# Altium footprint library 按键.PcbLib: 74 footprints (part 2 of 5)
Each footprint in its own frame and in the unit in brackets; x right, y up, seen from the top. Pads: shape width x height; smd on the part's side, far side on the other; paste and mask are expansions set on the pad; w line width, h text height; cw(c..) or ccw(c..) is an arc to the next point about the centre after c.
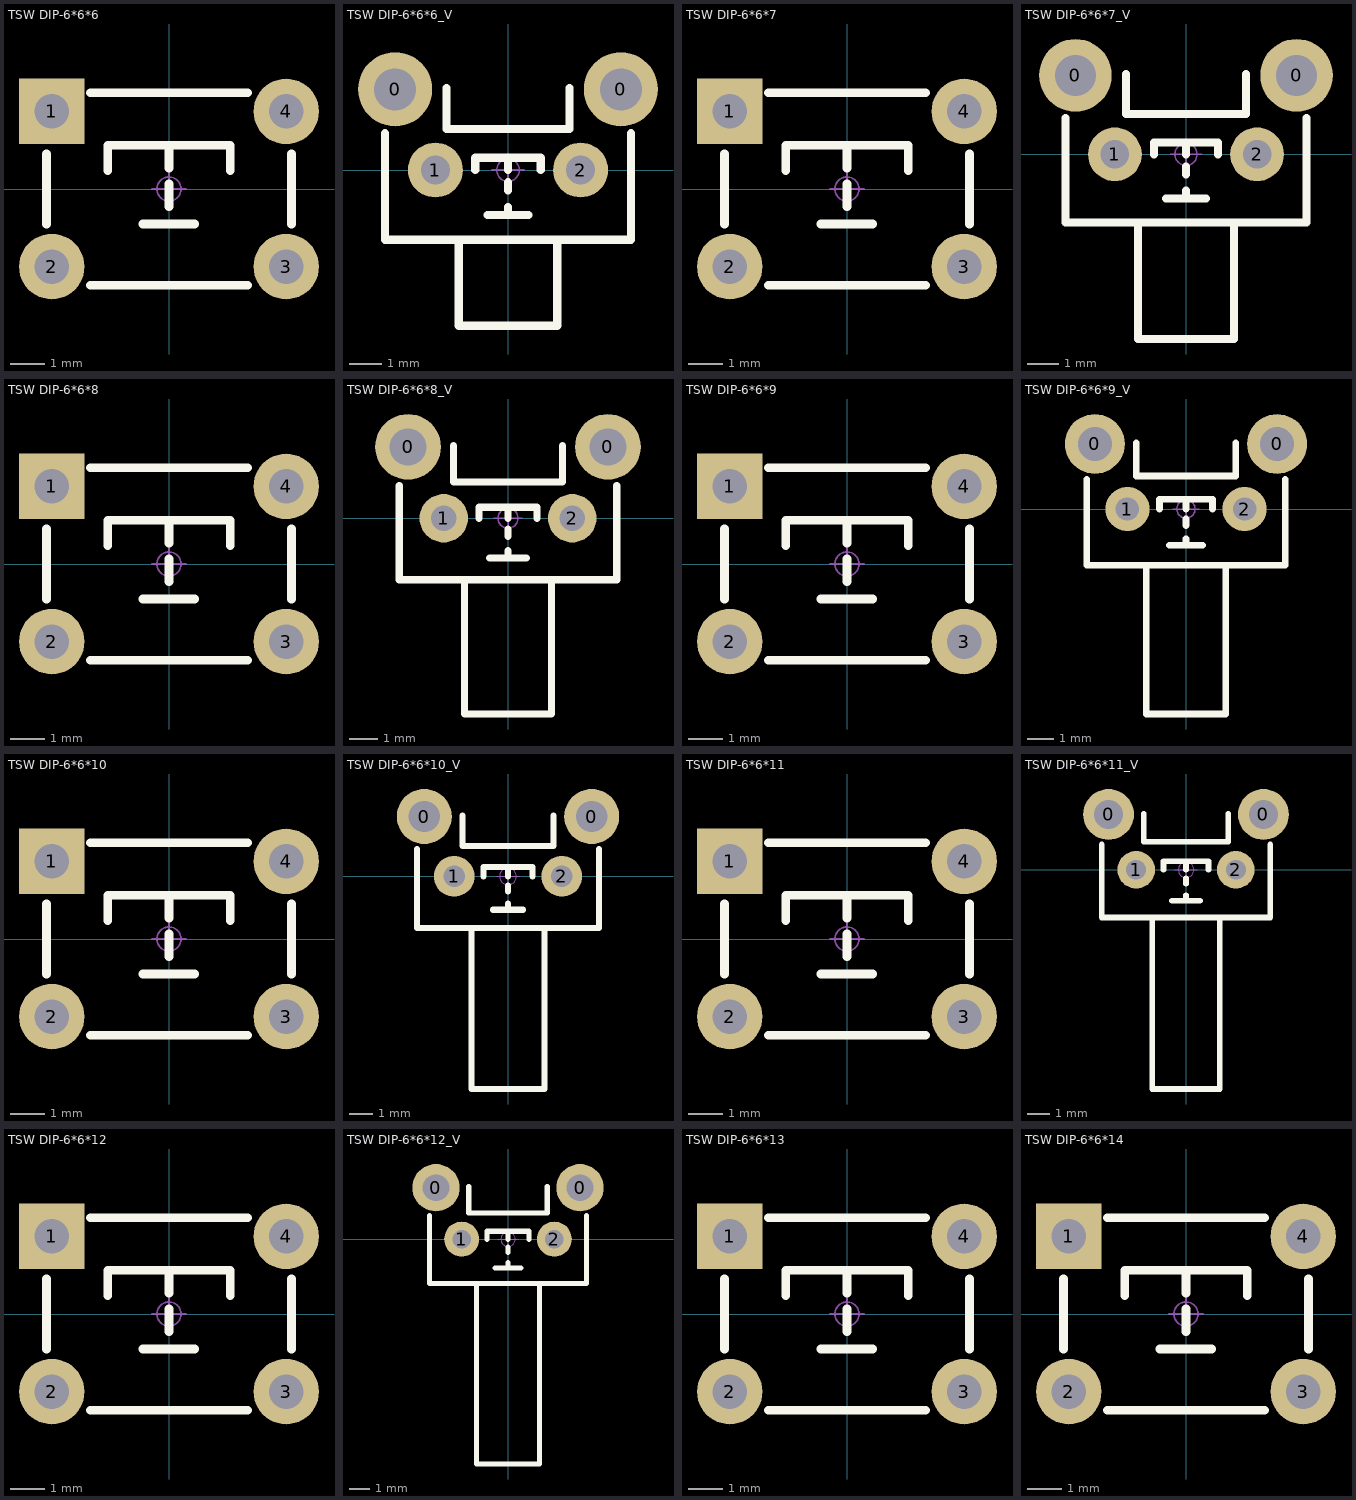
[diagram p1: the footprints below, top view; thin cyan lines are the x and y axes]

## TSW DIP-6*6*6 [mm] "6*6*6mm"
pads (4):
  rect 1.9x1.9 hole 1: 1(-3.4,2.25)
  round 1.9 hole 1: 2(-3.4,-2.25) 3(3.4,-2.25) 4(3.4,2.25)
Top Overlay:
  lines w0.254: -3.556,-1.016 -3.556,1.016 ; -2.286,-2.794 2.286,-2.794 ; -2.286,2.794 2.286,2.794 ; -1.778,0.533 -1.778,1.27 1.778,1.27 1.778,0.533 ; -0.762,-1.016 0.737,-1.016 ; 0,-0.508 0,0.152 ; 0,0.61 0,1.27 ; 3.556,-1.016 3.556,1.016
Bottom Overlay:
  lines w0.254: -2.286,-2.286 2.286,-2.286 ; -2.286,2.286 2.286,2.286
Mechanical 15:
  circle w0.05: c0,0 r0.35
  lines w0.05: -0.5,0 0.5,0 ; 0,-0.5 0,0.5
3D body "TSW DIP-6x6x6.STEP": height 5.95, standoff -3.45, extent -4.106,-3 4.106,3

## TSW DIP-6*6*6_V [mm] "侧按轻触开关 6*6*6mm"
pads (4):
  round 2.3 hole 1.3: 0(-3.5,2.5) 0(3.5,2.5)
  round 1.7 hole 0.9: 1(-2.25,0) 2(2.25,0)
Top Overlay:
  lines w0.254: -3.81,1.143 -3.81,-2.159 3.81,-2.159 3.81,1.143 ; -1.905,2.54 -1.905,1.27 1.905,1.27 1.905,2.54 ; -1.524,-2.159 -1.524,-4.826 1.524,-4.826 1.524,-2.159 ; -1.016,0 -1.016,0.381 1.016,0.381 1.016,0 ; -0.635,-1.397 0.635,-1.397 ; 0,-1.397 0,-1.143 ; 0,-0.635 0,-0.381 ; 0,0 0,0.381
Mechanical 15:
  circle w0.05: c0,0 r0.35
  lines w0.05: -0.5,0 0.5,0 ; 0,-0.5 0,0.5
3D body "TSW DIP-6x6x6_V.STEP": height 7.47, standoff -3.4, extent -4.183,-4.723 4.184,4.127

## TSW DIP-6*6*7 [mm] "6*6*7mm"
pads (4):
  rect 1.9x1.9 hole 1: 1(-3.4,2.25)
  round 1.9 hole 1: 2(-3.4,-2.25) 3(3.4,-2.25) 4(3.4,2.25)
Top Overlay:
  lines w0.254: -3.556,-1.016 -3.556,1.016 ; -2.286,-2.794 2.286,-2.794 ; -2.286,2.794 2.286,2.794 ; -1.778,0.533 -1.778,1.27 1.778,1.27 1.778,0.533 ; -0.762,-1.016 0.737,-1.016 ; 0,-0.508 0,0.152 ; 0,0.61 0,1.27 ; 3.556,-1.016 3.556,1.016
Bottom Overlay:
  lines w0.254: -2.286,-2.286 2.286,-2.286 ; -2.286,2.286 2.286,2.286
Mechanical 15:
  circle w0.05: c0,0 r0.35
  lines w0.05: -0.5,0 0.5,0 ; 0,-0.5 0,0.5
3D body "TSW DIP-6x6x7.STEP": height 6.95, standoff -3.45, extent -4.106,-3 4.106,3

## TSW DIP-6*6*7_V [mm] "侧按轻触开关 6*6*7mm"
pads (4):
  round 2.3 hole 1.3: 0(-3.5,2.5) 0(3.5,2.5)
  round 1.7 hole 0.9: 1(-2.25,0) 2(2.25,0)
Top Overlay:
  lines w0.254: -3.81,1.143 -3.81,-2.159 3.81,-2.159 3.81,1.143 ; -1.905,2.54 -1.905,1.27 1.905,1.27 1.905,2.54 ; -1.524,-2.159 -1.524,-5.842 1.524,-5.842 1.524,-2.159 ; -1.016,0 -1.016,0.381 1.016,0.381 1.016,0 ; -0.635,-1.397 0.635,-1.397 ; 0,-1.397 0,-1.143 ; 0,-0.635 0,-0.381 ; 0,0 0,0.381
Mechanical 15:
  circle w0.05: c0,0 r0.35
  lines w0.05: -0.5,0 0.5,0 ; 0,-0.5 0,0.5
3D body "TSW DIP-6x6x7_V.STEP": height 7.47, standoff -3.4, extent -4.183,-5.723 4.184,4.127

## TSW DIP-6*6*8 [mm] "6*6*8mm"
pads (4):
  rect 1.9x1.9 hole 1: 1(-3.4,2.25)
  round 1.9 hole 1: 2(-3.4,-2.25) 3(3.4,-2.25) 4(3.4,2.25)
Top Overlay:
  lines w0.254: -3.556,-1.016 -3.556,1.016 ; -2.286,-2.794 2.286,-2.794 ; -2.286,2.794 2.286,2.794 ; -1.778,0.533 -1.778,1.27 1.778,1.27 1.778,0.533 ; -0.762,-1.016 0.737,-1.016 ; 0,-0.508 0,0.152 ; 0,0.61 0,1.27 ; 3.556,-1.016 3.556,1.016
Bottom Overlay:
  lines w0.254: -2.286,-2.286 2.286,-2.286 ; -2.286,2.286 2.286,2.286
Mechanical 15:
  circle w0.05: c0,0 r0.35
  lines w0.05: -0.5,0 0.5,0 ; 0,-0.5 0,0.5
3D body "TSW DIP-6x6x8.STEP": height 7.95, standoff -3.45, extent -4.106,-3 4.106,3

## TSW DIP-6*6*8_V [mm] "侧按轻触开关 6*6*8mm"
pads (4):
  round 2.3 hole 1.3: 0(-3.5,2.5) 0(3.5,2.5)
  round 1.7 hole 0.9: 1(-2.25,0) 2(2.25,0)
Top Overlay:
  lines w0.254: -3.81,1.143 -3.81,-2.159 3.81,-2.159 3.81,1.143 ; -1.905,2.54 -1.905,1.27 1.905,1.27 1.905,2.54 ; -1.524,-2.159 -1.524,-6.858 1.524,-6.858 1.524,-2.159 ; -1.016,0 -1.016,0.381 1.016,0.381 1.016,0 ; -0.635,-1.397 0.635,-1.397 ; 0,-1.397 0,-1.143 ; 0,-0.635 0,-0.381 ; 0,0 0,0.381
Mechanical 15:
  circle w0.05: c0,0 r0.35
  lines w0.05: -0.5,0 0.5,0 ; 0,-0.5 0,0.5
3D body "TSW DIP-6x6x8_V.STEP": height 7.47, standoff -3.4, extent -4.183,-6.723 4.184,4.127

## TSW DIP-6*6*9 [mm] "6*6*9mm"
pads (4):
  rect 1.9x1.9 hole 1: 1(-3.4,2.25)
  round 1.9 hole 1: 2(-3.4,-2.25) 3(3.4,-2.25) 4(3.4,2.25)
Top Overlay:
  lines w0.254: -3.556,-1.016 -3.556,1.016 ; -2.286,-2.794 2.286,-2.794 ; -2.286,2.794 2.286,2.794 ; -1.778,0.533 -1.778,1.27 1.778,1.27 1.778,0.533 ; -0.762,-1.016 0.737,-1.016 ; 0,-0.508 0,0.152 ; 0,0.61 0,1.27 ; 3.556,-1.016 3.556,1.016
Bottom Overlay:
  lines w0.254: -2.286,-2.286 2.286,-2.286 ; -2.286,2.286 2.286,2.286
Mechanical 15:
  circle w0.05: c0,0 r0.35
  lines w0.05: -0.5,0 0.5,0 ; 0,-0.5 0,0.5
3D body "TSW DIP-6x6x9.STEP": height 8.95, standoff -3.45, extent -4.106,-3 4.106,3

## TSW DIP-6*6*9_V [mm] "侧按轻触开关 6*6*9mm"
pads (4):
  round 2.3 hole 1.3: 0(-3.5,2.5) 0(3.5,2.5)
  round 1.7 hole 0.9: 1(-2.25,0) 2(2.25,0)
Top Overlay:
  lines w0.254: -3.81,1.143 -3.81,-2.159 3.81,-2.159 3.81,1.143 ; -1.905,2.54 -1.905,1.27 1.905,1.27 1.905,2.54 ; -1.524,-2.159 -1.524,-7.874 1.524,-7.874 1.524,-2.159 ; -1.016,0 -1.016,0.381 1.016,0.381 1.016,0 ; -0.635,-1.397 0.635,-1.397 ; 0,-1.397 0,-1.143 ; 0,-0.635 0,-0.381 ; 0,0 0,0.381
Mechanical 15:
  circle w0.05: c0,0 r0.35
  lines w0.05: -0.5,0 0.5,0 ; 0,-0.5 0,0.5
3D body "TSW DIP-6x6x9_V.STEP": height 7.47, standoff -3.4, extent -4.183,-7.723 4.184,4.127

## TSW DIP-6*6*10 [mm] "6*6*10mm"
pads (4):
  rect 1.9x1.9 hole 1: 1(-3.4,2.25)
  round 1.9 hole 1: 2(-3.4,-2.25) 3(3.4,-2.25) 4(3.4,2.25)
Top Overlay:
  lines w0.254: -3.556,-1.016 -3.556,1.016 ; -2.286,-2.794 2.286,-2.794 ; -2.286,2.794 2.286,2.794 ; -1.778,0.533 -1.778,1.27 1.778,1.27 1.778,0.533 ; -0.762,-1.016 0.737,-1.016 ; 0,-0.508 0,0.152 ; 0,0.61 0,1.27 ; 3.556,-1.016 3.556,1.016
Bottom Overlay:
  lines w0.254: -2.286,-2.286 2.286,-2.286 ; -2.286,2.286 2.286,2.286
Mechanical 15:
  circle w0.05: c0,0 r0.35
  lines w0.05: -0.5,0 0.5,0 ; 0,-0.5 0,0.5
3D body "TSW DIP-6x6x10.STEP": height 9.95, standoff -3.45, extent -4.106,-3 4.106,3

## TSW DIP-6*6*10_V [mm] "侧按轻触开关 6*6*10mm"
pads (4):
  round 2.3 hole 1.3: 0(-3.5,2.5) 0(3.5,2.5)
  round 1.7 hole 0.9: 1(-2.25,0) 2(2.25,0)
Top Overlay:
  lines w0.254: -3.81,1.143 -3.81,-2.159 3.81,-2.159 3.81,1.143 ; -1.905,2.54 -1.905,1.27 1.905,1.27 1.905,2.54 ; -1.524,-2.159 -1.524,-8.89 1.524,-8.89 1.524,-2.159 ; -1.016,0 -1.016,0.381 1.016,0.381 1.016,0 ; -0.635,-1.397 0.635,-1.397 ; 0,-1.397 0,-1.143 ; 0,-0.635 0,-0.381 ; 0,0 0,0.381
Mechanical 15:
  circle w0.05: c0,0 r0.35
  lines w0.05: -0.5,0 0.5,0 ; 0,-0.5 0,0.5
3D body "TSW DIP-6x6x10_V.STEP": height 7.47, standoff -3.4, extent -4.183,-8.723 4.184,4.127

## TSW DIP-6*6*11 [mm] "6*6*11mm"
pads (4):
  rect 1.9x1.9 hole 1: 1(-3.4,2.25)
  round 1.9 hole 1: 2(-3.4,-2.25) 3(3.4,-2.25) 4(3.4,2.25)
Top Overlay:
  lines w0.254: -3.556,-1.016 -3.556,1.016 ; -2.286,-2.794 2.286,-2.794 ; -2.286,2.794 2.286,2.794 ; -1.778,0.533 -1.778,1.27 1.778,1.27 1.778,0.533 ; -0.762,-1.016 0.737,-1.016 ; 0,-0.508 0,0.152 ; 0,0.61 0,1.27 ; 3.556,-1.016 3.556,1.016
Bottom Overlay:
  lines w0.254: -2.286,-2.286 2.286,-2.286 ; -2.286,2.286 2.286,2.286
Mechanical 15:
  circle w0.05: c0,0 r0.35
  lines w0.05: -0.5,0 0.5,0 ; 0,-0.5 0,0.5
3D body "TSW DIP-6x6x11.STEP": height 10.95, standoff -3.45, extent -4.106,-3 4.106,3

## TSW DIP-6*6*11_V [mm] "侧按轻触开关 6*6*11mm"
pads (4):
  round 2.3 hole 1.3: 0(-3.5,2.5) 0(3.5,2.5)
  round 1.7 hole 0.9: 1(-2.25,0) 2(2.25,0)
Top Overlay:
  lines w0.254: -3.81,1.143 -3.81,-2.159 3.81,-2.159 3.81,1.143 ; -1.905,2.54 -1.905,1.27 1.905,1.27 1.905,2.54 ; -1.524,-2.159 -1.524,-9.906 1.524,-9.906 1.524,-2.159 ; -1.016,0 -1.016,0.381 1.016,0.381 1.016,0 ; -0.635,-1.397 0.635,-1.397 ; 0,-1.397 0,-1.143 ; 0,-0.635 0,-0.381 ; 0,0 0,0.381
Mechanical 15:
  circle w0.05: c0,0 r0.35
  lines w0.05: -0.5,0 0.5,0 ; 0,-0.5 0,0.5
3D body "TSW DIP-6x6x11_V.STEP": height 7.47, standoff -3.4, extent -4.183,-9.723 4.184,4.127

## TSW DIP-6*6*12 [mm] "6*6*12mm"
pads (4):
  rect 1.9x1.9 hole 1: 1(-3.4,2.25)
  round 1.9 hole 1: 2(-3.4,-2.25) 3(3.4,-2.25) 4(3.4,2.25)
Top Overlay:
  lines w0.254: -3.556,-1.016 -3.556,1.016 ; -2.286,-2.794 2.286,-2.794 ; -2.286,2.794 2.286,2.794 ; -1.778,0.533 -1.778,1.27 1.778,1.27 1.778,0.533 ; -0.762,-1.016 0.737,-1.016 ; 0,-0.508 0,0.152 ; 0,0.61 0,1.27 ; 3.556,-1.016 3.556,1.016
Bottom Overlay:
  lines w0.254: -2.286,-2.286 2.286,-2.286 ; -2.286,2.286 2.286,2.286
Mechanical 15:
  circle w0.05: c0,0 r0.35
  lines w0.05: -0.5,0 0.5,0 ; 0,-0.5 0,0.5
3D body "TSW DIP-6x6x12.STEP": height 11.95, standoff -3.45, extent -4.106,-3 4.106,3

## TSW DIP-6*6*12_V [mm] "侧按轻触开关 6*6*12mm"
pads (4):
  round 2.3 hole 1.3: 0(-3.5,2.5) 0(3.5,2.5)
  round 1.7 hole 0.9: 1(-2.25,0) 2(2.25,0)
Top Overlay:
  lines w0.254: -3.81,1.143 -3.81,-2.159 3.81,-2.159 3.81,1.143 ; -1.905,2.54 -1.905,1.27 1.905,1.27 1.905,2.54 ; -1.524,-2.159 -1.524,-10.922 1.524,-10.922 1.524,-2.159 ; -1.016,0 -1.016,0.381 1.016,0.381 1.016,0 ; -0.635,-1.397 0.635,-1.397 ; 0,-1.397 0,-1.143 ; 0,-0.635 0,-0.381 ; 0,0 0,0.381
Mechanical 15:
  circle w0.05: c0,0 r0.35
  lines w0.05: -0.5,0 0.5,0 ; 0,-0.5 0,0.5
3D body "TSW DIP-6x6x12_V.STEP": height 7.47, standoff -3.4, extent -4.183,-10.723 4.184,4.127

## TSW DIP-6*6*13 [mm] "6*6*13mm"
pads (4):
  rect 1.9x1.9 hole 1: 1(-3.4,2.25)
  round 1.9 hole 1: 2(-3.4,-2.25) 3(3.4,-2.25) 4(3.4,2.25)
Top Overlay:
  lines w0.254: -3.556,-1.016 -3.556,1.016 ; -2.286,-2.794 2.286,-2.794 ; -2.286,2.794 2.286,2.794 ; -1.778,0.533 -1.778,1.27 1.778,1.27 1.778,0.533 ; -0.762,-1.016 0.737,-1.016 ; 0,-0.508 0,0.152 ; 0,0.61 0,1.27 ; 3.556,-1.016 3.556,1.016
Bottom Overlay:
  lines w0.254: -2.286,-2.286 2.286,-2.286 ; -2.286,2.286 2.286,2.286
Mechanical 15:
  circle w0.05: c0,0 r0.35
  lines w0.05: -0.5,0 0.5,0 ; 0,-0.5 0,0.5
3D body "TSW DIP-6x6x13.STEP": height 12.95, standoff -3.45, extent -4.106,-3 4.106,3

## TSW DIP-6*6*14 [mm] "6*6*14mm"
pads (4):
  rect 1.9x1.9 hole 1: 1(-3.4,2.25)
  round 1.9 hole 1: 2(-3.4,-2.25) 3(3.4,-2.25) 4(3.4,2.25)
Top Overlay:
  lines w0.254: -3.556,-1.016 -3.556,1.016 ; -2.286,-2.794 2.286,-2.794 ; -2.286,2.794 2.286,2.794 ; -1.778,0.533 -1.778,1.27 1.778,1.27 1.778,0.533 ; -0.762,-1.016 0.737,-1.016 ; 0,-0.508 0,0.152 ; 0,0.61 0,1.27 ; 3.556,-1.016 3.556,1.016
Bottom Overlay:
  lines w0.254: -2.286,-2.286 2.286,-2.286 ; -2.286,2.286 2.286,2.286
Mechanical 15:
  circle w0.05: c0,0 r0.35
  lines w0.05: -0.5,0 0.5,0 ; 0,-0.5 0,0.5
3D body "TSW DIP-6x6x14.STEP": height 13.95, standoff -3.45, extent -4.106,-3 4.106,3